# Altium schematic symbol library Amplifier.SchLib: 30 symbols
Pins are listed as number, name and electrical type; pins without a type are passive.

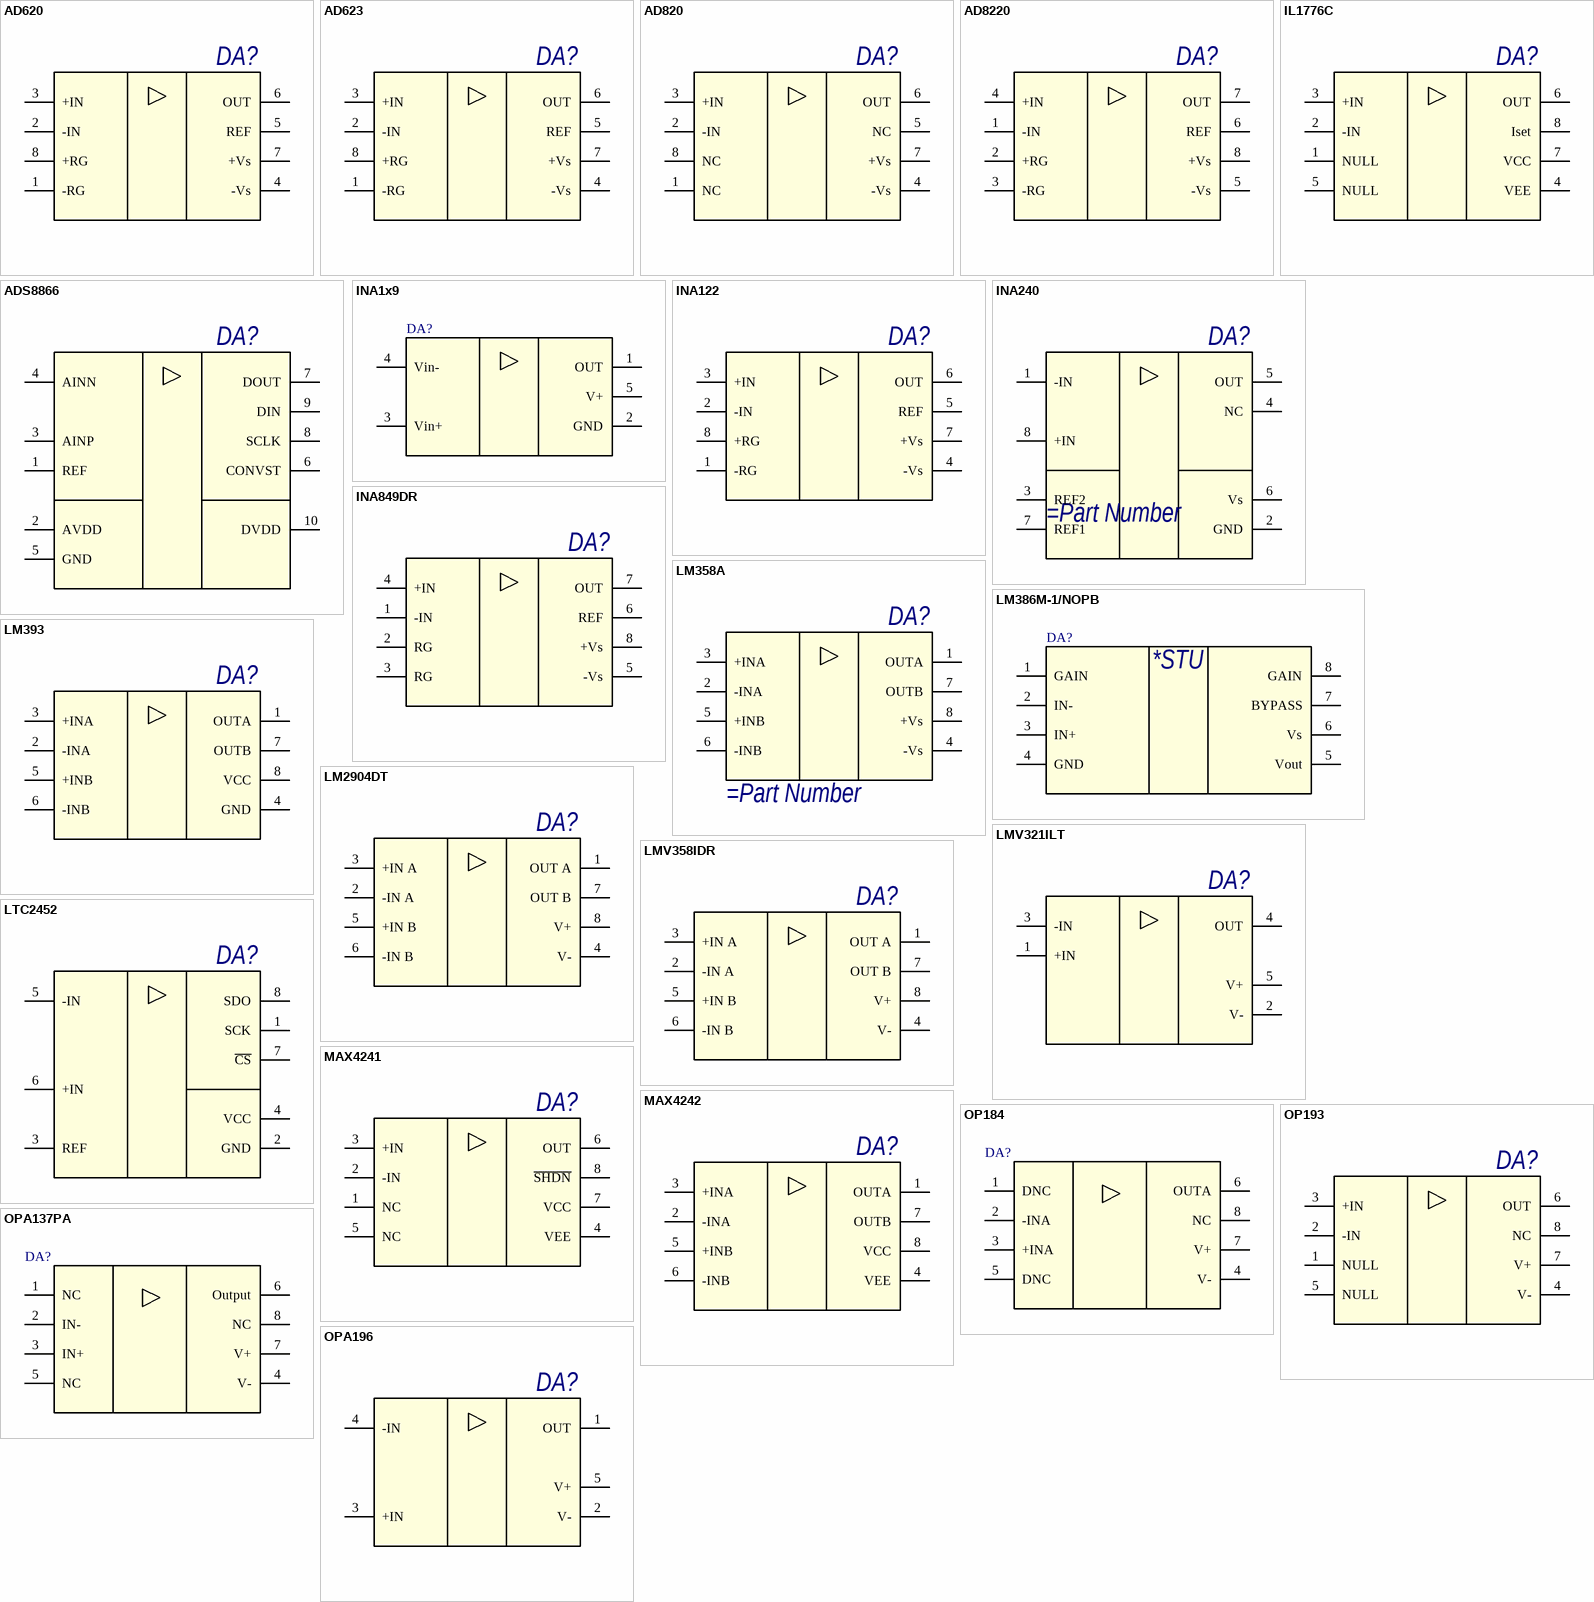
[diagram p0: symbols AD620 to OPA196]

## AD620
designator DA?
Low Cost Low Power  Instrumentation Amplifier
pins: 1 -RG, 2 -IN, 3 +IN, 4 -Vs, 5 REF, 6 OUT, 7 +Vs, 8 +RG

## AD623
designator DA?
Low Cost Low Power  Instrumentation Amplifier
pins: 1 -RG, 2 -IN, 3 +IN, 4 -Vs, 5 REF, 6 OUT, 7 +Vs, 8 +RG

## AD820
designator DA?
Low Power FET-Input Op Amp
pins: 1 NC, 2 -IN, 3 +IN, 4 -Vs, 5 NC, 6 OUT, 7 +Vs, 8 NC

## AD8220
designator DA?
JFET Input Instrumentation Amplifier
pins: 1 -IN, 2 +RG, 3 -RG, 4 +IN, 5 -Vs, 6 REF, 7 OUT, 8 +Vs

## ADS8866
designator DA?
100-kSPS, serial interface, micropower, miniature,  single-ended input, SAR
pins: 1 REF, 2 AVDD, 3 AINP, 4 AINN, 5 GND, 6 CONVST, 7 DOUT, 8 SCLK, 9 DIN, 10 DVDD

## IL1776С
designator DA?
МИКРОМОЩНЫЙ ПРОГРАММИРУЕМЫЙ ОПЕРАЦИОННЫЙ УСИЛИТЕЛЬ
pins: 1 NULL, 2 -IN, 3 +IN, 4 VEE, 5 NULL, 6 OUT, 7 VCC, 8 Iset

## INA1x9
designator DA?
Измерительный датчик тока
pins: 1 OUT (power), 2 GND (power), 3 Vin+ (power), 4 Vin- (power), 5 V+ (power)

## INA122
designator DA?
Low Cost Low Power  Instrumentation Amplifier
pins: 1 -RG, 2 -IN, 3 +IN, 4 -Vs, 5 REF, 6 OUT, 7 +Vs, 8 +RG

## INA240
designator DA?
–4-V to 80-V, Bidirectional, Ultra-Precise Current Sense Amplifier With / Enhanced PWM Rejection
pins: 1 -IN, 2 GND, 3 REF2, 4 NC, 5 OUT, 6 Vs, 7 REF1, 8 +IN

## INA849DR
designator DA?
High-Bandwidth, Instrumentation Amplifier
pins: 1 -IN, 2 RG, 3 RG, 4 +IN, 5 -Vs, 6 REF, 7 OUT, 8 +Vs

## LM358A
designator DA?
36V General Purpose Op Amps
pins: 1 OUTA, 2 -INA, 3 +INA, 4 -Vs, 5 +INB, 6 -INB, 7 OUTB, 8 +Vs

## LM386M-1/NOPB
designator DA?
Low Voltage Audio Power Amplifier
pins: 1 GAIN (power), 2 IN- (power), 3 IN+ (power), 4 GND (power), 5 Vout (power), 6 Vs (power), 7 BYPASS (power), 8 GAIN (power)
text: *STU

## LM393
designator DA?
Low Offset Voltage  Dual Comparators
pins: 1 OUTA, 2 -INA, 3 +INA, 4 GND, 5 +INB, 6 -INB, 7 OUTB, 8 VCC

## LM2904DT
designator DA?
Двухканальный операционный усилитель малой мощности
pins: 1 OUT A, 2 -IN A, 3 +IN A, 4 V-, 5 +IN B, 6 -IN B, 7 OUT B, 8 V+

## LMV321ILT
designator DA?
Операционный усилитель - [SOT-23-5]; Тип ОУ: Стандартный; Особенность: Rail-to-Rail; Каналы: 1; Uпит: 2.7...6 В; Iпотр: 162 мкА; Прог. Кусил.: Нет
pins: 1 +IN, 2 V-, 3 -IN, 4 OUT, 5 V+

## LMV358IDR
designator DA?
LOW-VOLTAGE RAIL-TO-RAIL OUTPUT OPERATIONAL AMPLIFIERS
pins: 1 OUT A, 2 -IN A, 3 +IN A, 4 V-, 5 +IN B, 6 -IN B, 7 OUT B, 8 V+

## LTC2452
designator DA?
Ultra-Tiny, Differential, 16-Bit  ∆Σ ADC with SPI Interface
pins: 1 SCK, 2 GND, 3 REF, 4 VCC, 5 -IN, 6 +IN, 7 ~{CS}, 8 SDO

## MAX4241
designator DA?
МИКРОМОЩНЫЙ Single/Dual/Quad, +1.8V/10µA, SOT23,  Beyond-the-Rails Op Amps
pins: 1 NC, 2 -IN, 3 +IN, 4 VEE, 5 NC, 6 OUT, 7 VCC, 8 ~{SHDN}

## MAX4242
designator DA?
МИКРОМОЩНЫЙ Single/Dual/Quad, +1.8V/10µA, SOT23,  Beyond-the-Rails Op Amps
pins: 1 OUTA, 2 -INA, 3 +INA, 4 VEE, 5 +INB, 6 -INB, 7 OUTB, 8 VCC

## OP184
designator DA?
Precision Rail-to-Rail / Input and Output Operational Amplifiers
pins: 1 DNC (power), 2 -INA (power), 3 +INA (power), 4 V- (power), 5 DNC (power), 6 OUTA (power), 7 V+ (power), 8 NC (power)

## OP193
designator DA?
Micropower  Operational Amplifiers
pins: 1 NULL, 2 -IN, 3 +IN, 4 V-, 5 NULL, 6 OUT, 7 V+, 8 NC

## OPA137PA
designator DA?
FET-INPUT OPERATIONAL AMPLIFIERS
pins: 1 NC (power), 2 IN- (power), 3 IN+ (power), 4 V- (power), 5 NC (power), 6 Output (power), 7 V+ (power), 8 NC (power)

## OPA196
designator DA?
Low-Power, Low Offset Voltage, Rail-to-Rail
pins: 1 OUT, 2 V-, 3 +IN, 4 -IN, 5 V+

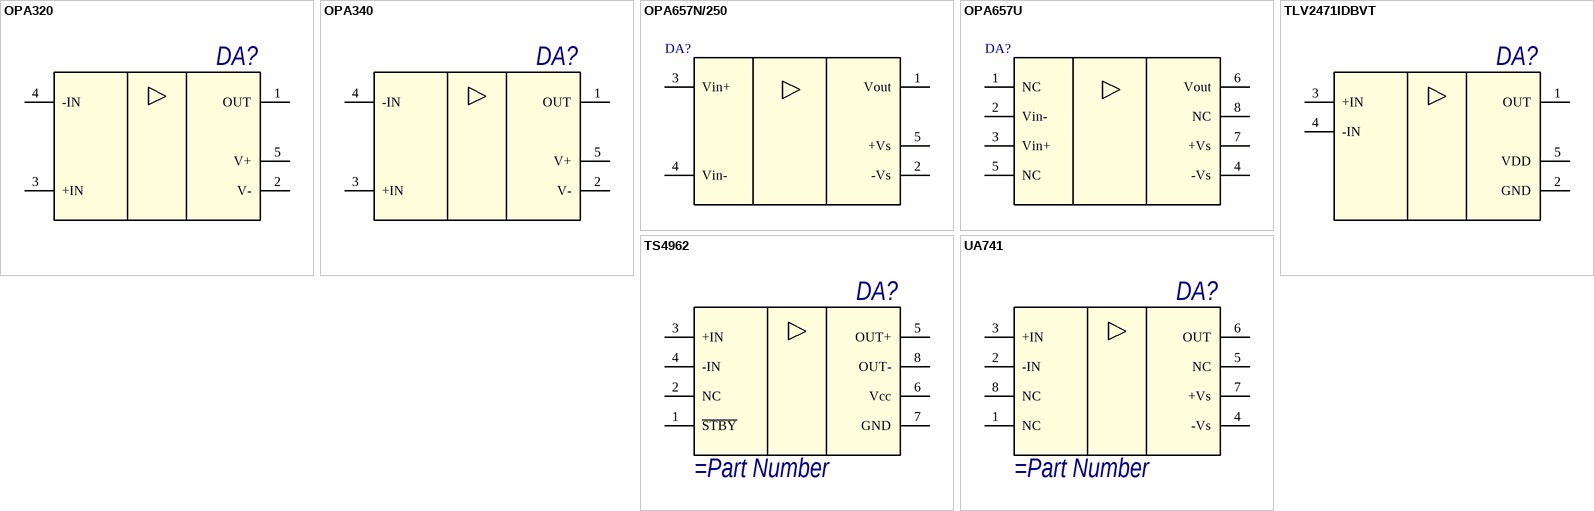
[diagram p1: symbols OPA320 to UA741]

## OPA320
designator DA?
Precision, 20-MHz, 0.9-pA, Low-Noise, RRIO
pins: 1 OUT, 2 V-, 3 +IN, 4 -IN, 5 V+

## OPA340
designator DA?
Operational Amplifiers / MicroAmplifier
pins: 1 OUT, 2 V-, 3 +IN, 4 -IN, 5 V+

## OPA657N/250
designator DA?
1.6-GHz, Low-Noise, FET-Input Operational Amplifier
pins: 1 Vout (power), 2 -Vs (power), 3 Vin+ (power), 4 Vin- (power), 5 +Vs (power)

## OPA657U
designator DA?
1.6-GHz, Low-Noise, FET-Input Operational Amplifier
pins: 1 NC (power), 2 Vin- (power), 3 Vin+ (power), 4 -Vs (power), 5 NC (power), 6 Vout (power), 7 +Vs (power), 8 NC (power)

## TLV2471IDBVT
designator DA?
HIGH-DRIVE OPERATIONAL AMPLIFIERS WITH SHUTDOWN
pins: 1 OUT, 2 GND, 3 +IN, 4 -IN, 5 VDD

## TS4962
designator DA?
Low Cost Low Power  Instrumentation Amplifier
pins: 1 ~{STBY}, 2 NC, 3 +IN, 4 -IN, 5 OUT+, 6 Vcc, 7 GND, 8 OUT-

## UA741
designator DA?
Операционный усилитель общего применения
pins: 1 NC, 2 -IN, 3 +IN, 4 -Vs, 5 NC, 6 OUT, 7 +Vs, 8 NC